# Altium schematic symbol library Electromechanical.SchLib: 1 symbol
Pins are listed as number, name and electrical type; pins without a type are passive.

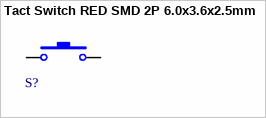
[diagram p0: symbol Tact Switch RED SMD 2P 6.0x3.6x2.5mm]

## Tact Switch RED SMD 2P 6.0x3.6x2.5mm
designator S?, comment SW  (value not drawn)
Published: 24-Mar-1999; LatestRevisionDate: 17-Jul-2002; LatestRevisionNote: Re-released for DXP Platform.; PackageReference: SPST-2; Publisher: Altium Limited
footprint Tact Switch RED SMD 2P 6.0x3.6x2.5mm (Switch SMD type)
pins: 1, 2